# Altium footprint library PcbLib1.PcbLib: 3 footprints
Each footprint in its own frame and in the unit in brackets; x right, y up, seen from the top. Pads: shape width x height; smd on the part's side, far side on the other; paste and mask are expansions set on the pad; w line width, h text height; cw(c..) or ccw(c..) is an arc to the next point about the centre after c.
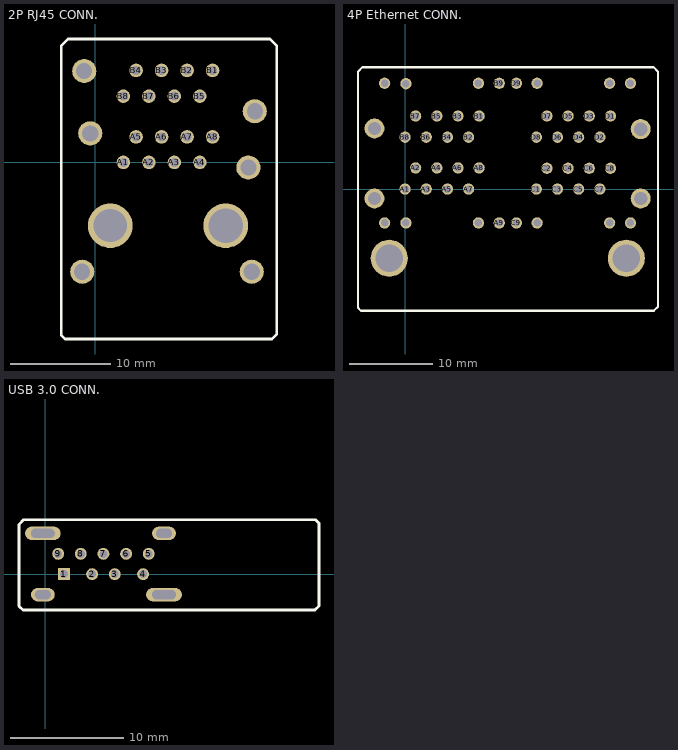
[diagram p0: the footprints below, top view; thin cyan lines are the x and y axes]

## 2P RJ45 CONN. [mm]
pads (24):
  round 1.35 hole 0.9: A1(2.8,0) A2(5.34,0) A3(7.88,0) A4(10.42,0) A5(4.07,2.54) A6(6.61,2.54) A7(9.15,2.54) A8(11.69,2.54) B1(11.69,9.17) B2(9.15,9.17) B3(6.61,9.17) B4(4.07,9.17) B5(10.42,6.6) B6(7.88,6.6) B7(5.34,6.6) B8(2.8,6.6)
  round 2.4 hole 1.6: ""(-1.3,-10.9) ""(-1.1,9.1) ""(-0.5,2.9) ""(15.262,-0.51) ""(15.6,-10.9) ""(15.9,5.1)
  round 4.45 hole 3.3: ""(1.5,-6.3)
  round 4.45 hole 3.45: ""(13,-6.3)
Top Overlay:
  lines w0.254: -3.4,11.3 -3.4,11.6 -2.7,12.3 17.4,12.3 18.1,11.6 18.1,5.075 18.1,-8.975 18.1,-16 18.1,-17.1 17.6,-17.6 -3,-17.6 -3.4,-17.2 -3.4,-16.7 ; -3.4,11.45 -3.4,5.2 -3.4,-9.4 -3.4,-16.7 ; -3.4,-16.7 -3.4,-16.7
3D body "615016240521_Download_STP_615016240521_rev1.stp": height 25.51, standoff -3.84, extent -2.836,-17.195 17.436,11.255

## 4P Ethernet CONN. [mm]
pads (54):
  round 1.35 hole 0.9: A1(0,0) A2(1.27,2.54) A3(2.54,0) A4(3.81,2.54) A5(5.08,0) A6(6.35,2.54) A7(7.62,0) A8(8.89,2.54) A9(11.3,-4.06) A10(8.8,-4.06) A11(0.1,-4.06) A12(-2.45,-4.06) B1(8.89,8.77) B2(7.62,6.23) B3(6.35,8.77) B4(5.08,6.23) B5(3.81,8.77) B6(2.54,6.23) B7(1.27,8.77) B8(0,6.23) B9(11.3,12.7) B10(8.8,12.7) B11(0.1,12.65) B12(-2.45,12.7) C1(15.75,0) C2(17.02,2.5) C3(18.29,0) C4(19.56,2.5) C5(20.83,0) C6(22.1,2.5) C7(23.37,0) C8(24.64,2.5) C9(13.35,-4.06) C10(15.85,-4.06) C11(24.55,-4.06) C12(27.05,-4.06) D1(24.64,8.77) D2(23.37,6.23) D3(22.1,8.77) D4(20.83,6.23) D5(19.56,8.77) D6(18.29,6.23) D7(17.02,8.77) D8(15.75,6.23) D9(13.35,12.7) D10(15.85,12.7) D11(24.55,12.7) D12(27.05,12.7)
  round 2.4 hole 1.6: ""(-3.675,-1.125) ""(-3.675,7.275) ""(28.275,-1.125) ""(28.275,7.2)
  round 4.45 hole 3.3: ""(-1.9,-8.3) ""(26.55,-8.3)
Top Overlay:
  lines w0.254: -5.65,-14.25 -5.3,-14.6 29.85,-14.6 30.35,-14.1 30.35,14.1 29.825,14.625 28,14.625 -3.75,14.625 -5.125,14.625 -5.65,14.1 -5.65,-14.25
3D body "ACC-M-RJSAE-538X-04X-REVT2.STEP": height 27.49, standoff -3.49, extent -5.354,-14.25 30.054,14.608

## USB 3.0 CONN. [mm]
pads (13):
  rect 1.05x1.05 hole 0.7 mask+0.05: 1(1.659,0)
  round 1.05 hole 0.7 mask+0.05: 2(4.159,0) 3(6.159,0) 4(8.659,0) 5(9.159,1.8) 6(7.159,1.8) 7(5.159,1.8) 8(3.159,1.8) 9(1.159,1.8)
  oval 2.1x1.2 hole 0.8 slot 1.4 at 0 deg mask+0.05: ""(-0.191,-1.81) ""(10.509,3.61)
  oval 3.15x1.2 hole 0.8 slot 2.1 at 0 deg mask+0.05: ""(-0.191,3.61) ""(10.509,-1.81)
Top Overlay:
  lines w0.254: 23.827,-3.173 24.2,-2.8 24.2,4.5 23.891,4.809 -1.891,4.809 -2.3,4.4 -2.3,-2.827 -1.953,-3.173 23.827,-3.173 ; 23.827,-3.173 23.827,-3.173
3D body "484040003.stp": height 14.85, standoff -3.36, extent -1.95,-2.8 23.75,4.52